# Altium footprint library SCD40-D-R2.PcbLib: 1 footprints
Each footprint in its own frame and in the unit in brackets; x right, y up, seen from the top. Pads: shape width x height; smd on the part's side, far side on the other; paste and mask are expansions set on the pad; w line width, h text height; cw(c..) or ccw(c..) is an arc to the next point about the centre after c.
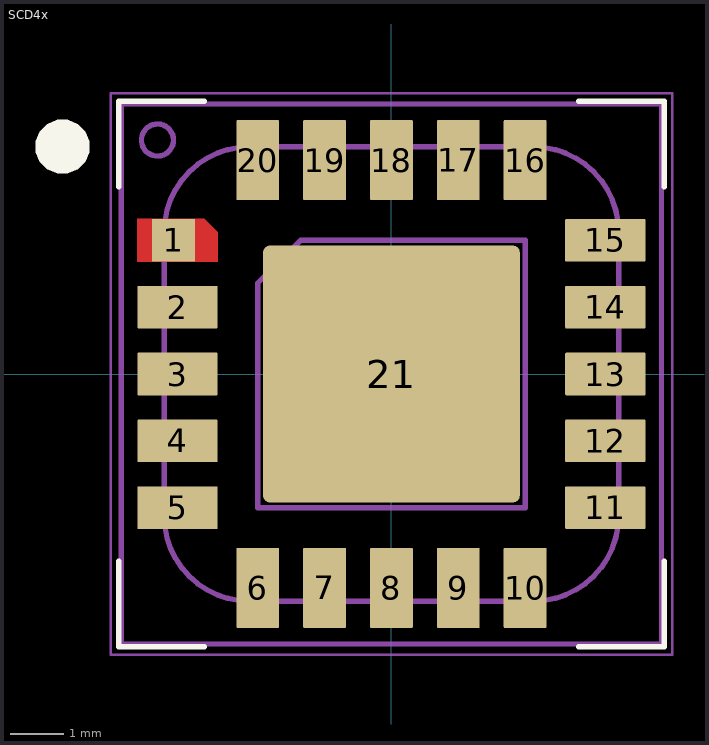
[diagram p0: the footprint, top view; thin cyan lines are the x and y axes]

## SCD4x [mm] "PQFN, 20-Leads, Body 10.10x10.10mm, Pitch 1.25mm, Thermal Pad 4.80x4.80mm, IPC Medium Density"
height 6.5
pads (21):
  rect 0.8x0.8 smd paste-0.7: 1(-4.075,2.5)
  rrect5% 1.5x0.8 smd paste-0.125: 2(-4,1.25) 3(-4,0) 4(-4,-1.25) 5(-4,-2.5) 11(4,-2.5) 12(4,-1.25) 13(4,0) 14(4,1.25) 15(4,2.5)
  rrect5% 0.8x1.5 smd paste-0.125: 6(-2.5,-4) 7(-1.25,-4) 8(0,-4) 9(1.25,-4) 10(2.5,-4) 16(2.5,4) 17(1.25,4) 18(0,4) 19(-1.25,4) 20(-2.5,4)
  rrect5% 4.8x4.8 smd paste-5 mask+0.1: 21(0,0)
Top Layer:
  region: -4.75,2.1 -4.75,2.9 -3.5,2.9 -3.25,2.65 -3.25,2.1
Top Overlay:
  region: -6.15,3.75 -6.249,3.75 -6.433,3.826 -6.574,3.967 -6.65,4.151 -6.65,4.25 -6.65,4.349 -6.574,4.533 -6.433,4.674 -6.249,4.75 -6.15,4.75 -6.051,4.75 -5.867,4.674 -5.726,4.533 -5.65,4.349 -5.65,4.25 -5.65,4.151 -5.726,3.967 -5.867,3.826 -6.051,3.75
  lines w0.1: -5.1,-3.5 -5.1,-5.1 -3.5,-5.1 ; -5.1,3.5 -5.1,5.1 -3.5,5.1 ; 3.5,-5.1 5.1,-5.1 5.1,-3.5 ; 3.5,5.1 5.1,5.1 5.1,3.5
Top Paste:
  region: 2.15,2.05 2.15,0.45 2.15,0.43 2.135,0.393 2.107,0.365 2.07,0.35 2.05,0.35 0.45,0.35 0.43,0.35 0.393,0.365 0.365,0.393 0.35,0.43 0.35,0.45 0.35,2.05 0.35,2.07 0.365,2.107 0.393,2.135 0.43,2.15 0.45,2.15 2.05,2.15 2.07,2.15 2.107,2.135 2.135,2.107 2.15,2.07
  region: 2.05,-2.15 0.45,-2.15 0.43,-2.15 0.393,-2.135 0.365,-2.107 0.35,-2.07 0.35,-2.05 0.35,-0.45 0.35,-0.43 0.365,-0.393 0.393,-0.365 0.43,-0.35 0.45,-0.35 2.05,-0.35 2.07,-0.35 2.107,-0.365 2.135,-0.393 2.15,-0.43 2.15,-0.45 2.15,-2.05 2.15,-2.07 2.135,-2.107 2.107,-2.135 2.07,-2.15
  region: -2.15,-2.05 -2.15,-0.45 -2.15,-0.43 -2.135,-0.393 -2.107,-0.365 -2.07,-0.35 -2.05,-0.35 -0.45,-0.35 -0.43,-0.35 -0.393,-0.365 -0.365,-0.393 -0.35,-0.43 -0.35,-0.45 -0.35,-2.05 -0.35,-2.07 -0.365,-2.107 -0.393,-2.135 -0.43,-2.15 -0.45,-2.15 -2.05,-2.15 -2.07,-2.15 -2.107,-2.135 -2.135,-2.107 -2.15,-2.07
  region: -2.05,2.15 -0.45,2.15 -0.43,2.15 -0.393,2.135 -0.365,2.107 -0.35,2.07 -0.35,2.05 -0.35,0.45 -0.35,0.43 -0.365,0.393 -0.393,0.365 -0.43,0.35 -0.45,0.35 -2.05,0.35 -2.07,0.35 -2.107,0.365 -2.135,0.393 -2.15,0.43 -2.15,0.45 -2.15,2.05 -2.15,2.07 -2.135,2.107 -2.107,2.135 -2.07,2.15
Top Assembly:
  circle w0.1: c-4.375,4.375 r0.3
  lines w0.1: -5.05,-5.05 -5.05,5.05 5.05,5.05 5.05,-5.05 -5.05,-5.05 ; -4.25,-2.65 ccw(c-2.65,-2.65) -2.65,-4.25 2.65,-4.25 ccw(c2.65,-2.65) 4.25,-2.65 4.25,2.65 ccw(c2.65,2.65) 2.65,4.25 -2.65,4.25 ccw(c-2.65,2.65) -4.25,2.65 -4.25,-2.65 ; -2.5,-2.5 -2.5,1.7 -1.7,2.5 2.5,2.5 2.5,-2.5 -2.5,-2.5
Top Component Outline:
  lines w0.05: -5.05,-5.05 5.05,-5.05 5.05,5.05 -5.05,5.05 -5.05,-5.05
Top Courtyard:
  lines w0.05: -0.5,0 0.5,0 ; 0,-0.5 0,0.5 ; -5.25,-5.25 -5.25,5.25 5.25,5.25 5.25,-5.25 -5.25,-5.25
Top Component Center:
  lines w0.05: -0.5,0 0.5,0 ; 0,-0.5 0,0.5
3D body: height 9.45, standoff -3.97, extent 6.4,-0.9 6.4,-0.9
3D body "149693-00_SCD4x_Datasheet.STEP": height 6.28, standoff -0.03, extent -5.05,-5.05 5.05,5.05